# Altium schematic symbol library ProyectoTD3.SchLib: 23 symbols
Pins are listed as number, name and electrical type; pins without a type are passive.

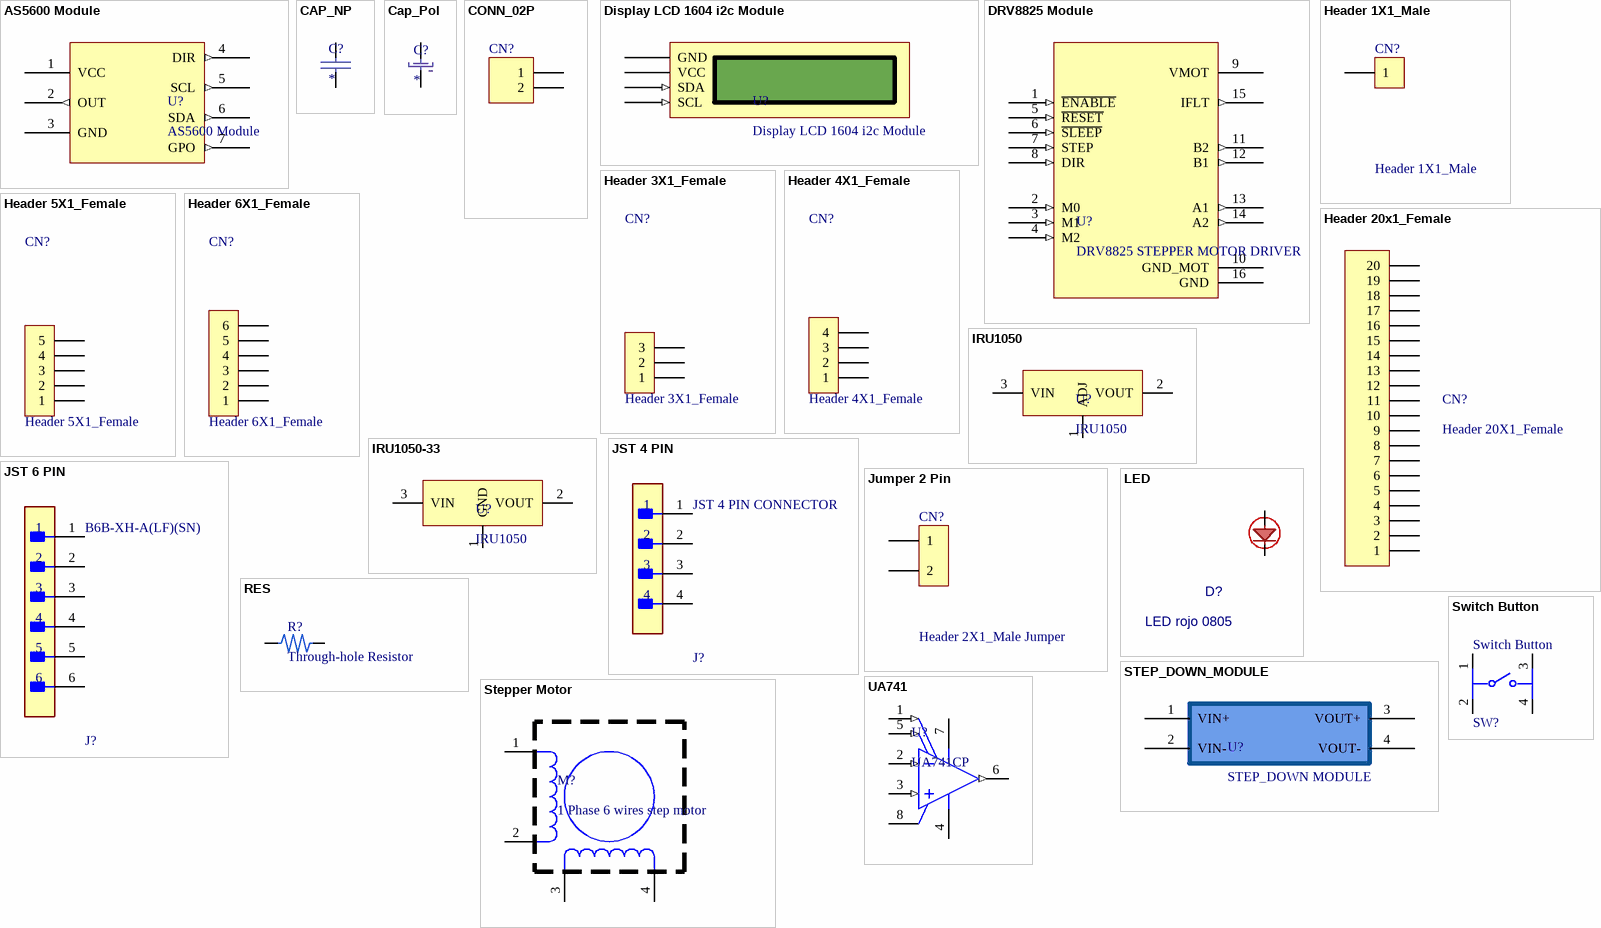
[diagram p0: symbols AS5600 Module to UA741]

## AS5600 Module
designator U?
AS5600 Magnetic Angle Sensor Encoder Module
footprint AS5600 Module
pins: 1 VCC (power), 2 OUT (out), 3 GND (power), 4 DIR (out), 5 SCL (out), 6 SDA (out), 7 GPO (out)

## CAP_NP
designator C?
Non-Polarized Capacitor
footprint CAP_Axial_0.2mm
pins: 1, 2

## Cap_Pol
designator C?
Polarized Capacitor
pins: 1, 2

## CONN_02P
designator CN?
Connector Generic 2 Vias
footprint TERMINAL_BLOCK_2_PIN (5,00mm - modular - blue - Horizontal entry with pressure clamp - 9,9 mm height - 02p)
pins: 1, 2

## Display LCD 1604 i2c Module
designator U?
footprint Display LCD 1604 i2c Module
pins: 1 GND (power), 2 VCC (power), 3 SDA (in), 4 SCL (in)

## DRV8825 Module
designator U?, comment DRV8825 STEPPER MOTOR DRIVER
DRV8825 STEPPER MOTOR DRIVER ,Stepper, Bipolar 8.2 ~ 45VDC Supply 1.5A 8.2 ~ 45V Load
footprint IC_DRV8825_MODULE
pins: 1 ~{ENABLE} (in), 2 M0 (in), 3 M1 (in), 4 M2 (in), 5 ~{RESET} (in), 6 ~{SLEEP} (in), 7 STEP (in), 8 DIR (in), 9 VMOT (power), 10 GND_MOT (power), 11 B2 (out), 12 B1 (out), 13 A1 (out), 14 A2 (out), 15 IFLT (out), 16 GND (power)

## Header 1X1_Male
designator CN?
Header, 1-Pin, Single row,male; LatestRevisionDate: 17-Jul-2002; LatestRevisionNote: Re-released for DXP Platform.; Publisher: Altium Limited
signal-integrity model Connector
footprint 1*1P_MALE
pins: 1

## Header 3X1_Female
designator CN?
Header, 3-Pin, Single row,female; LatestRevisionDate: 17-Jul-2002; LatestRevisionNote: Re-released for DXP Platform.; Publisher: Altium Limited
signal-integrity model Connector
footprint 1*3P_FEMALE
pins: 1, 2, 3

## Header 4X1_Female
designator CN?
Header, 4-Pin, Single row,female; LatestRevisionDate: 17-Jul-2002; LatestRevisionNote: Re-released for DXP Platform.; Publisher: Altium Limited
signal-integrity model Connector
footprint 1*4P_FEMALE
pins: 1, 2, 3, 4

## Header 5X1_Female
designator CN?
Header, 5-Pin, Single row,female; LatestRevisionDate: 17-Jul-2002; LatestRevisionNote: Re-released for DXP Platform.; Publisher: Altium Limited
footprint HDR2X17 (Connector; Header; 17x2 Position)
signal-integrity model Connector
footprint 1*10P_FEMALE (Footprint not found)
pins: 1, 2, 3, 4, 5

## Header 6X1_Female
designator CN?
Header, 6-Pin, Single row,female; LatestRevisionDate: 17-Jul-2002; LatestRevisionNote: Re-released for DXP Platform.; Publisher: Altium Limited
signal-integrity model Connector
footprint 1*6P_FEMALE
pins: 1, 2, 3, 4, 5, 6

## Header 20x1_Female
designator CN?, comment Header 20X1_Female
Header, 16-Pin, Single row,female
footprint 1*20P_FEMALE
pins: 1, 2, 3, 4, 5, 6, 7, 8, 9, 10, 11, 12, 13, 14, 15, 16, 17, 18, 19, 20

## IRU1050
designator U?
5A  LOW DROPOUT POSITIVEADJUSTABLE REGULATOR
footprint IRU1050
pins: 1 ADJ, 2 VOUT (power), 3 VIN (power)

## IRU1050-33
designator U?, comment IRU1050
5A  FIXED 3V3 LOW DROPOUT POSITIVE ADJUSTABLE REGULATOR
footprint IRU1050
pins: 1 GND, 2 VOUT (power), 3 VIN (power)

## JST 4 PIN
designator J?, comment JST 4 PIN CONNECTOR
CONN HEADER VERT 4POS 2.5MM; Number of Contacts: 4; Contact Resistance: 20mR; Voltage Rating: 250V; Max Current Rating: 3A; Gender: Male; Wire/Cable Gauge: 22AWG; Mated Stacking Heights: 9.8mm; Insulation Resistance: 1GR; Orientation: Straight; Contact Type: Male Pin; Contact Finish - Mating: TIN; Series: XH; Max Voltage Rating (AC): 250V; Lead Pitch: 2.5mm; Contact Shape: Square; Insulation Color: Natural; Termination: Solder; Lead Free: Lead Free; Voltage Rating (AC): 250V; Number of Rows: 1; Flammability Rating: UL94 V-0; Number of Positions: 4; Max Operating Temperature: 85°C; Package Quantity: 500; Mount: Through Hole; REACH SVHC: No SVHC; Connector Type: Header; Insulation Material: Nylon; Fastening Type: Detent; Min Operating Temperature: -25°C; Housing Color: White; Packaging: Bulk; Contact Plating: Tin; Contact Material: Brass; Max Voltage Rating (DC): 250V; Housing Material: Polyamide; Color: Natural; Material: Polyamide; Pitch: 2.5mm; Depth: 5.75mm; Current Rating: 3A; Length: 12.4mm
footprint JST 4 PIN CONNECTOR
pins: 1, 2, 3, 4

## JST 6 PIN
designator J?, comment B6B-XH-A(LF)(SN)
CONN HEADER VERT 6POS 2.5MM
footprint JST 6 PIN CONNECTOR
pins: 1, 2, 3, 4, 5, 6

## Jumper 2 Pin
designator CN?, comment Header 2X1_Male Jumper
Header, 2-Pin, Single row,male; LatestRevisionDate: 17-Jul-2002; LatestRevisionNote: Re-released for DXP Platform.; Publisher: Altium Limited
signal-integrity model Connector
footprint JUMPER 2x1 PIN
pins: 1, 2

## LED
designator D?, comment LED rojo 0805
LED
footprint LED_DIODE_3.9mm (THT Mono-color Round Color LED, 2-leads)
pins: A, K

## RES
designator R?, comment Through-hole Resistor
footprint RES_AXIAL_3.2_6MM (Resistor 1/8 W L=3.2mm W=6mm)
pins: 1 *, 2 *

## STEP_DOWN_MODULE
designator U?, comment STEP_DOWN MODULE
footprint STEP_DOWN_MODULE
pins: 1 VIN+, 2 VIN-, 3 VOUT+, 4 VOUT-

## Stepper Motor
designator M?, comment 1 Phase 6 wires step motor
Stepper Motor 1 Phase 6 wires
pins: 1, 2, 3, 4

## Switch Button
designator SW?
SWITCH TACTILE SPST-NO 0.05A 24V; Manufacturer: TE Connectivity; Manufacturer Part Number: 1-1825910-4; Operating Force: 160gf; Contact Current Rating: 50mA; Electromechanical Life: 100000Cycles; Contact Resistance: 100mΩ; Octopart: https://octopart.com/1-1825910-4-te+connectivity-42270468; ComponentLink2URL: https://www.te.com/commerce/DocumentDelivery/DDEController?Action=showdoc&DocId=Customer+Drawing%7F1825910%7FC10%7Fpdf%7FEnglish%7FENG_CD_1825910_C10.pdf%7F1-1825910-4; Throw Configuration: SPST-NO; Height: 9.8mm; Package: 1-1825910-4; Automotive: No; Device Class L2: Switches; Voltage Rating Dc: 24V; Temperature Range High: +85°C; Device Class L3: Tactile Switches; Mouser Description: Tactile Switches 6MM ACTHIGH TEMP TACT SWITCH; Lead Free: Yes; Temperature Range Low: -35°C; Digikey Description: SWITCH TACTILE SPST-NO 0.05A 24V; Device Class L1: Electromechanical; Mount: Through Hole; RoHS: TRUE; ComponentLink2Description: Datasheet; Temperature: -35°C to +85°C; Category: Switch
footprint SWITCH (SWITCH TACTILE SPST-NO 0.05A 24V)
pins: 1, 2, 3, 4

## UA741
designator U?, comment UA741CP
General-Purpose Operational Amplifier, 7 to 36 V, 0 to 70 degC, 8-pin DIP (P8), Pb-Free (RoHS); Manufacturer: Texas Instruments; Iq per channel(Max)(mA): 2.8; Number of Channels: 1; Total Supply Voltage(Min)(+5V is 5, +/-5V is 10): 7; IIB(Max)(pA): 800000; Slew Rate(Typ)(V/us): 0.5; Total Supply Voltage(Max)(+5V is 5, +/-5V is 10): 36; Vio (25C)(Max)(mV): 6; CMRR(Min)(dB): 70; Sub Family: General Purpose Amplifier, High Supply Voltage Amplifier (>=30V); PackageVersion: 4040082/E, 04/2010; PackageReference: P0008A; ComponentLink1URL: http://www.ti.com/; Mounting Technology: Through Hole; ComponentLink1Description: Manufacturer URL; GBW(Typ)(MHz): 1; ComponentLink2Description: Datasheet; ComponentLink2URL: http://www.ti.com/lit/ds/symlink/ua741.pdf; PartNumber: UA741CP; Code_JEDEC: MS-001; ComponentLink3Description: Package Specification; DatasheetVersion: SLOS094B; ComponentLink3URL: http://www.ti.com/litv/pdf/mpdi001b; PackageDescription: 8-Pin Plastic In-Line, Body 9.59 x 6.35 mm, Pitch 2.54 mm; Eco-Plan: Pb-Free (RoHS)
footprint UA741 (DIP, 8-Leads, Body 10.15x6.6mm, Pitch 2.54mm)
pins: 1 OFFSET N1 (in), 2 IN- (in), 3 IN+ (in), 4 VCC- (power), 5 OFFSET N2 (in), 6 OUT (out), 7 VCC+ (power), 8 NC